# Altium footprint library X-Connectors.PcbLib: 45 footprints (part 1 of 3)
Each footprint in its own frame and in the unit in brackets; x right, y up, seen from the top. Pads: shape width x height; smd on the part's side, far side on the other; paste and mask are expansions set on the pad; w line width, h text height; cw(c..) or ccw(c..) is an arc to the next point about the centre after c.
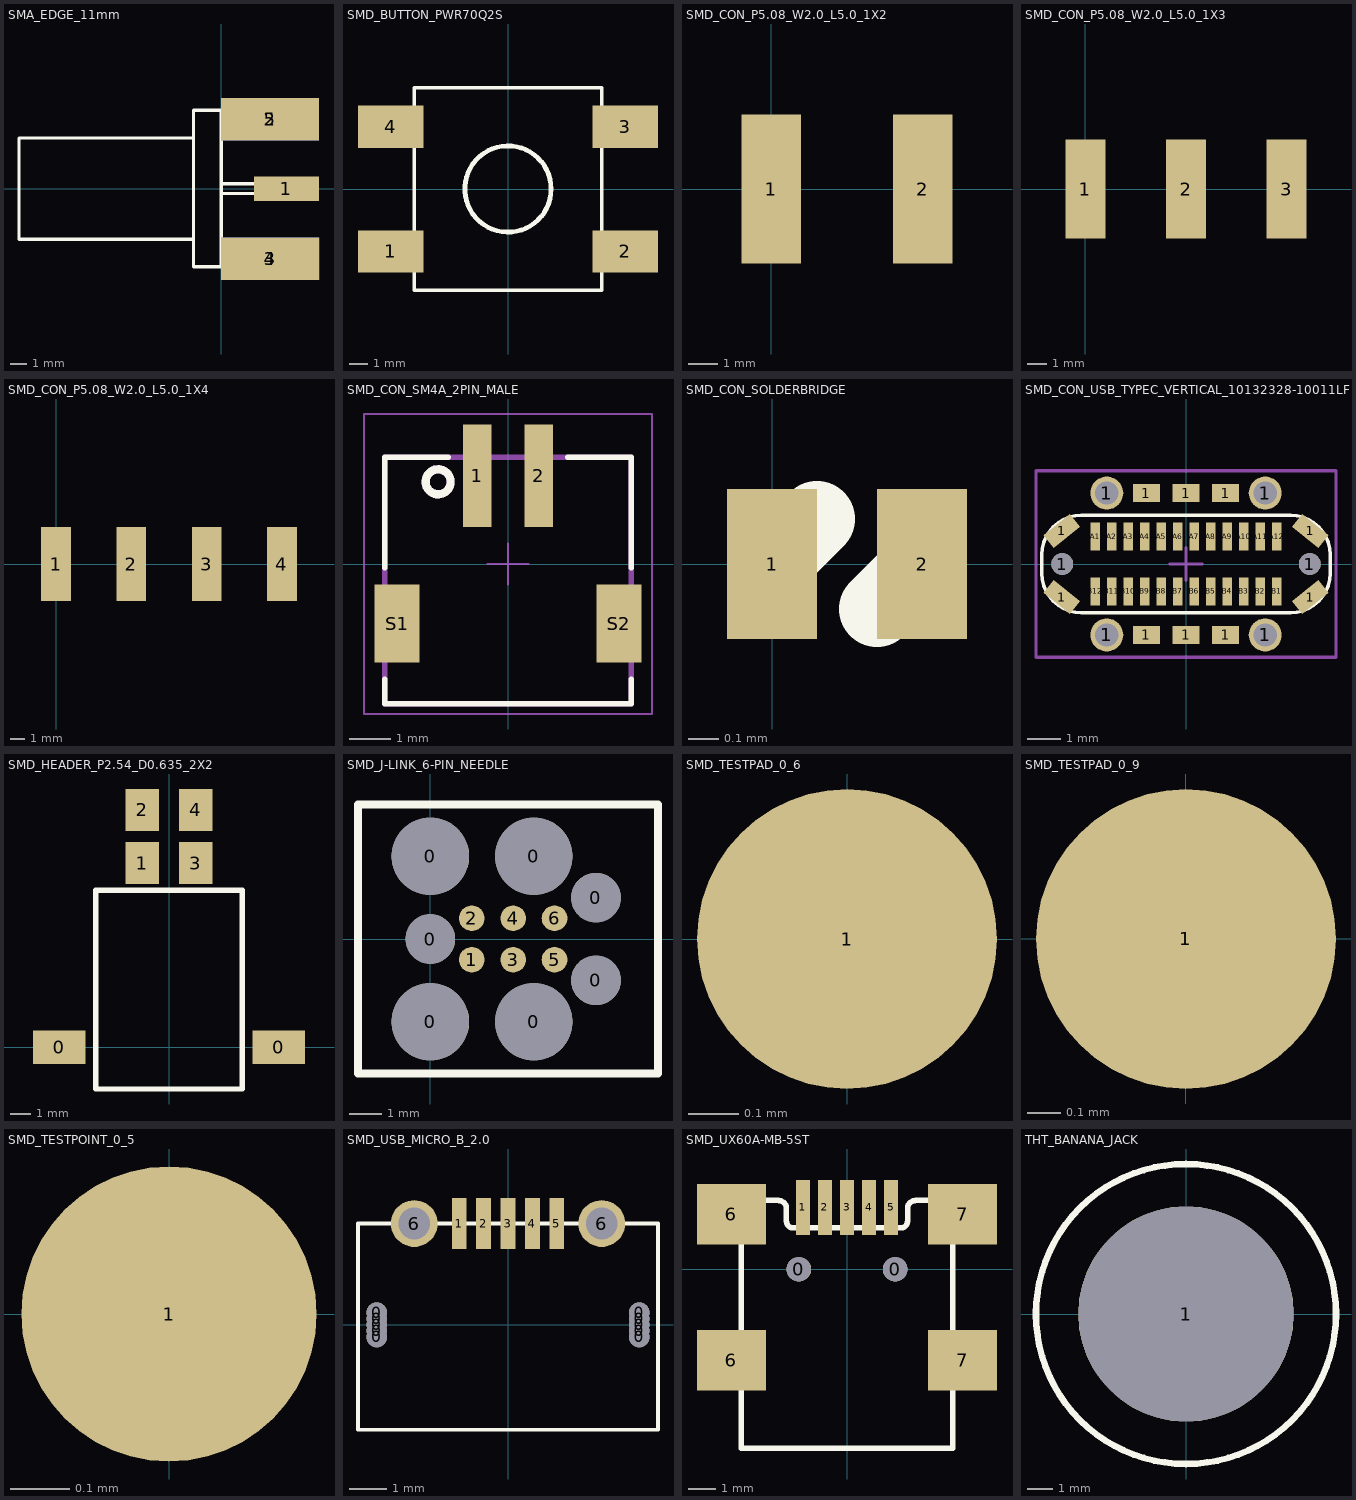
[diagram p0: the footprints below, top view; thin cyan lines are the x and y axes]

## SMA_EDGE_11mm [mm]
pads (5):
  rect 4x1.5 smd: 1(4,0)
  rect 6x2.6 smd: 2(3,4.25) 3(3,-4.3)
  rect 6x2.6 smd far side: 4(3,-4.3) 5(3,4.25)
Top Overlay:
  lines w0.2: -1.7,-3.1 -12.4,-3.1 -12.4,3.1 -1.7,3.1 ; 0,-3.8 4.7,-3.8 4.7,-4.8 0,-4.8 ; 0,-0.3 4.7,-0.3 4.7,0.3 0,0.3 ; 0,3.8 4.7,3.8 4.7,4.8 0,4.8 ; 0,-4.8 0,0 0,4.8 ; 0,-4.8 -1.7,-4.8 -1.7,0 -1.7,4.8 0,4.8

## SMD_BUTTON_PWR70Q2S [mm] "SMD_BUTTON_PWR70Q2S"
height 8.8
pads (4):
  rect 3.5x2.25 smd: 1(-6.25,-3.325) 2(6.25,-3.325) 3(6.25,3.325) 4(-6.25,3.325)
Top Overlay:
  circle w0.254: c0,0 r2.3
  lines w0.2: -5,-5.4 -5,5.4 5,5.4 5,-5.4 -5,-5.4

## SMD_CON_P5.08_W2.0_L5.0_1X2 [mm]
pads (2):
  rect 2x5 smd: 1(0,0) 2(5.08,0)

## SMD_CON_P5.08_W2.0_L5.0_1X3 [mm]
pads (3):
  rect 2x5 smd: 1(0,0) 2(5.08,0) 3(10.16,0)

## SMD_CON_P5.08_W2.0_L5.0_1X4 [mm]
pads (4):
  rect 2x5 smd: 1(0,0) 2(5.08,0) 3(10.16,0) 4(15.24,0)

## SMD_CON_SM4A_2PIN_MALE [mm] "Connector Header Surface Mount, Right Angle 2 position 0.059\" (1.50mm)"
height 3.7
pads (4):
  rect 0.7x2.5 smd: 1(-0.75,2.15) 2(0.75,2.15)
  rect 1.1x1.9 smd: S1(-2.7,-1.45) S2(2.7,-1.45)
Top Overlay:
  circle w0.2: c-1.7,2 r0.304
  lines w0.127: -3,-2.8 -3,-3.4 3,-3.4 3,-2.8 ; -3,-0.1 -3,2.6 -1.45,2.6 ; 1.45,2.6 3,2.6 3,-0.1
Mechanical 13:
  circle w0.2: c-1.7,2 r0.304
  circle w0.3: c-0.7,1.9 r0.1
  lines w0.127: -3,-3.4 -3,2.6 ; -3,-3.4 3,-3.4 ; -3,-3.4 -3,2.6 ; -3,-3.4 3,-3.4 ; -3,2.6 3,2.6 ; -3,2.6 3,2.6 ; 3,-3.4 3,2.6 ; 3,-3.4 3,2.6
Mechanical 15:
  lines w0.05: -0.5,0 0.5,0 ; 0,-0.5 0,0.5 ; -3.5,-3.65 -3.5,3.65 3.5,3.65 3.5,-3.65 -3.5,-3.65
3D body "S2B-ZR-SM4A-TF(LF)(SN)--3DModel-STEP-56544.STEP": height 3.7, standoff 0, extent -3,-3.36 3,3.14

## SMD_CON_SOLDERBRIDGE [mm]
pads (2):
  rect 0.3x0.5 smd: 1(0,0) 2(0.5,0)
Top Overlay:
  lines w0.254: 0,0 0.15,0.15 ; 0.35,-0.15 0.5,0

## SMD_CON_USB_TYPEC_VERTICAL_10132328-10011LF [mm] "USB - C (Type - C) USB 3.1 (USB 3.1 Gen 2, Superspeed+) Receptacle Connector 24 Position Surface Mount, Through Hole"
height 8.8
pads (40):
  rect 1.03x0.5 smd rot 141: 1(-3.77,-1) 1(3.77,1)
  rect 1.03x0.5 smd rot 39: 1(-3.77,1) 1(3.77,-1)
  round 0.66 hole 0.66 unplated paste+0 mask+0: 1(-3.75,0) 1(3.75,0)
  round 1 hole 0.7: 1(-2.4,-2.15) 1(-2.4,2.15) 1(2.4,-2.15) 1(2.4,2.15)
  rect 0.82x0.55 smd: 1(-1.2,-2.15) 1(-1.2,2.15) 1(0,-2.15) 1(0,2.15) 1(1.2,-2.15) 1(1.2,2.15)
  rect 0.3x0.85 smd: A1(-2.75,0.83) A2(-2.25,0.83) A3(-1.75,0.83) A4(-1.25,0.83) A5(-0.75,0.83) A6(-0.25,0.83) A7(0.25,0.83) A8(0.75,0.83) A9(1.25,0.83) A10(1.75,0.83) A11(2.25,0.83) A12(2.75,0.83) B1(2.75,-0.83) B2(2.25,-0.83) B3(1.75,-0.83) B4(1.25,-0.83) B5(0.75,-0.83) B6(0.25,-0.83) B7(-0.25,-0.83) B8(-0.75,-0.83) B9(-1.25,-0.83) B10(-1.75,-0.83) B11(-2.25,-0.83) B12(-2.75,-0.83)
Top Overlay:
  lines w0.1: -4.37,-0.28 ccw(c-3.17,-0.28) -3.17,-1.48 3.17,-1.48 ccw(c3.17,-0.28) 4.37,-0.28 4.37,0.28 ccw(c3.17,0.28) 3.17,1.48 -3.17,1.48 ccw(c-3.17,0.28) -4.37,0.28 -4.37,-0.28
Mechanical 15:
  lines w0.1: -0.5,0 0.5,0 ; 0,-0.5 0,0.5 ; -4.545,-2.825 4.545,-2.825 4.545,2.825 -4.545,2.825 -4.545,-2.825
3D body "10132328-10011LF.stp": height 8.8, standoff -1.3, extent -4.37,-2.25 4.37,2.25

## SMD_HEADER_P2.54_D0.635_2X2 [mm]
height 8.2
pads (6):
  rect 2.5x1.6 smd: 0(-5.25,0) 0(5.25,0)
  rect 1.6x2 smd: 1(-1.27,8.8) 2(-1.27,11.34) 3(1.27,8.8) 4(1.27,11.34)
Top Overlay:
  lines w0.254: -3.5,-2 -3.5,7.5 3.5,7.5 3.5,-2 -3.5,-2

## SMD_J-LINK_6-PIN_NEEDLE [mm]
pads (13):
  round 2.375 hole 2.375 unplated paste-2.375 mask-2.375: 0(0,-2.54) 0(0,2.54) 0(3.175,-2.54) 0(3.175,2.54)
  round 1.524 hole 1.524 unplated paste-1.524 mask-1.524: 0(0,0) 0(5.08,-1.27) 0(5.08,1.27)
  round 0.787 smd paste-0.393: 1(1.27,-0.635) 2(1.27,0.635) 3(2.54,-0.635) 4(2.54,0.635) 5(3.81,-0.635) 6(3.81,0.635)
Top Overlay:
  lines w0.254: -2.222,-4.127 -2.222,4.127 6.985,4.127 6.985,-4.127 -2.222,-4.127

## SMD_TESTPAD_0_6 [mm]
pads (1):
  round 0.6 smd: 1(0,0)

## SMD_TESTPAD_0_9 [mm]
pads (1):
  round 0.9 smd: 1(0,0)

## SMD_TESTPOINT_0_5 [mm]
pads (1):
  round 0.5 smd: 1(0,0)

## SMD_USB_MICRO_B_2.0 [mm] "SMD_USB_MICRO_B_2.0"
height 3
pads (17):
  round 0.55 hole 0.55 unplated: 0(-3.5,-0.325) 0(-3.5,-0.162) 0(-3.5,0) 0(-3.5,0.162) 0(-3.5,0.325) 0(3.5,-0.325) 0(3.5,-0.162) 0(3.5,0) 0(3.5,0.162) 0(3.5,0.325)
  rect 0.4x1.35 smd: 1(-1.3,2.7) 2(-0.65,2.7) 3(0,2.7) 4(0.65,2.7) 5(1.3,2.7)
  round 1.25 hole 0.85: 6(-2.5,2.7) 6(2.5,2.7)
Top Overlay:
  lines w0.1: -4,-2.8 4,-2.8 4,2.7 -4,2.7 -4,-2.8

## SMD_UX60A-MB-5ST [mm] "USB 2.0 Mini B"
height 3.95
pads (11):
  round 0.9 hole 0.9 unplated: 0(-1.75,0) 0(1.75,0)
  rect 0.5x2 smd: 1(-1.6,2.25) 2(-0.8,2.25) 3(0,2.25) 4(0.8,2.25) 5(1.6,2.25)
  rect 2.5x2.2 smd: 6(-4.2,-3.3) 6(-4.2,2) 7(4.2,-3.3) 7(4.2,2)
Top Overlay:
  lines w0.2: -3.85,-6.5 -3.85,2.5 -2.5,2.5 cw(c-2.5,2.2) -2.2,2.2 -2.2,1.75 ccw(c-1.95,1.75) -1.95,1.5 1.95,1.5 ccw(c1.95,1.75) 2.2,1.75 2.2,2.2 cw(c2.5,2.2) 2.5,2.5 3.85,2.5 3.85,-6.5 -3.85,-6.5

## THT_BANANA_JACK [mm]
pads (1):
  round 8.4 hole 8.4 unplated: 1(0,0)
Top Overlay:
  circle w0.254: c0,0 r5.85